# Altium footprint library 14-pin-steering.PcbLib: 1 footprints
Each footprint in its own frame and in the unit in brackets; x right, y up, seen from the top. Pads: shape width x height; smd on the part's side, far side on the other; paste and mask are expansions set on the pad; w line width, h text height; cw(c..) or ccw(c..) is an arc to the next point about the centre after c.
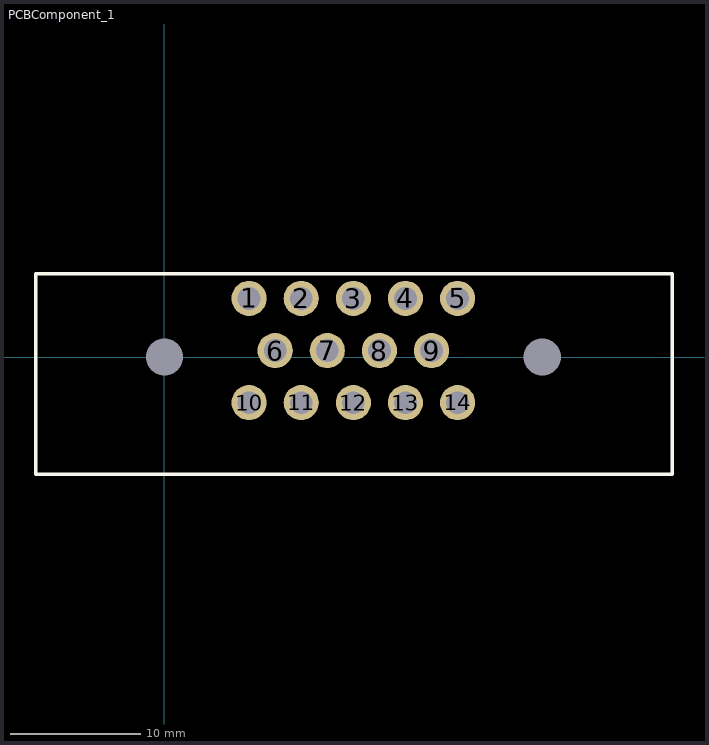
[diagram p0: the footprint, top view; thin cyan lines are the x and y axes]

## PCBComponent_1 [mm]
pads (16):
  round 2.7 hole 1.75: 1(6.5,4.5) 2(10.5,4.5) 3(14.5,4.5) 4(18.5,4.5) 5(22.5,4.5) 6(8.5,0.5) 7(12.5,0.5) 8(16.5,0.5) 9(20.5,0.5) 10(6.5,-3.5) 11(10.5,-3.5) 12(14.5,-3.5) 13(18.5,-3.5) 14(22.5,-3.5)
  round 0 hole 2.85: ""(0,0) ""(29,0)
Top Overlay:
  lines w0.254: -9.875,-9 -9.875,6.4 38.975,6.4 38.975,-9 -9.775,-9 -9.875,-9
3D body "c-1-776266-1-b-3d.stp": height 27.78, standoff -4.32, extent -9.756,-31.44 39.044,6.36